# Altium footprint library 555-pcbLIB.PcbLib: 10 footprints
Each footprint in its own frame and in the unit in brackets; x right, y up, seen from the top. Pads: shape width x height; smd on the part's side, far side on the other; paste and mask are expansions set on the pad; w line width, h text height; cw(c..) or ccw(c..) is an arc to the next point about the centre after c.
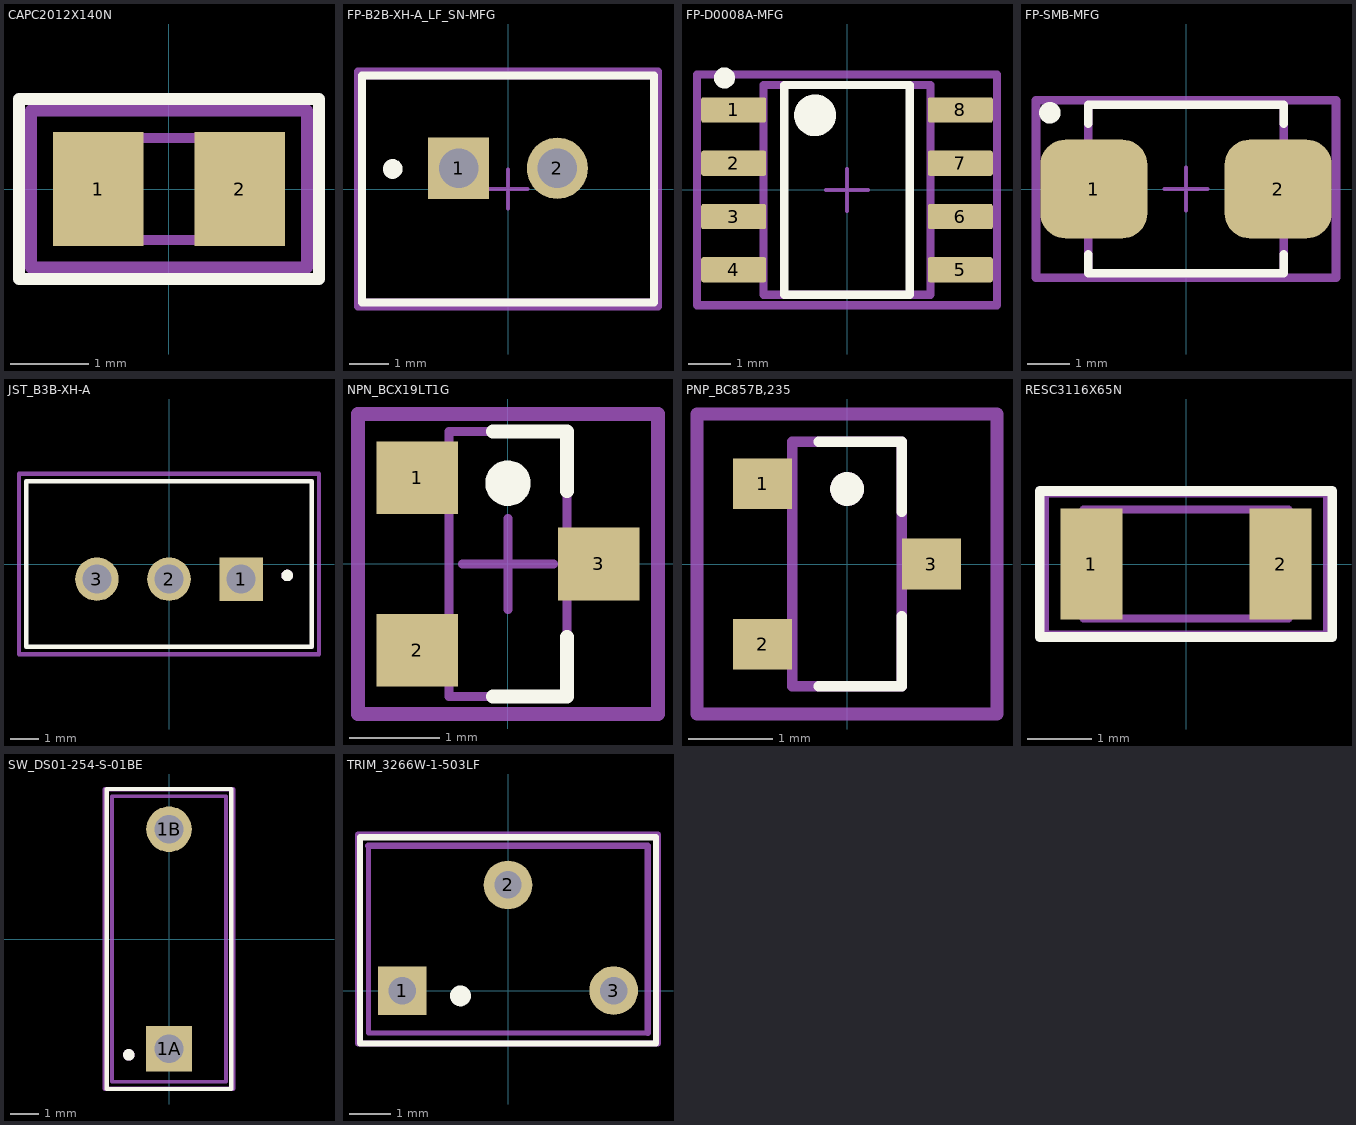
[diagram p0: the footprints below, top view; thin cyan lines are the x and y axes]

## CAPC2012X140N [mm]
pads (2):
  rect 1.15x1.45 smd: 1(-0.9,0) 2(0.9,0)
Top Overlay:
  lines w0.152: -1.905,-1.143 -1.905,1.143 1.905,1.143 1.905,-1.143 -1.905,-1.143
Top Assembly:
  region: -0.5,-0.65 -1,-0.65 -1,0.65 -0.5,0.65
  region: 1,-0.65 0.5,-0.65 0.5,0.65 1,0.65
  lines w0.127: -1,-0.65 -1,0.65 1,0.65 1,-0.65 -1,-0.65
Top Courtyard:
  lines w0.152: -1.75,-1 -1.75,1 1.75,1 1.75,-1 -1.75,-1
3D body "CL21B105KAFNNNE.step": height 1.26, standoff 0.01, extent -1,-0.686 1,0.664

## FP-B2B-XH-A_LF_SN-MFG [mm]
pads (2):
  rect 1.55x1.55 hole 1 paste-2539.97 mask+0: 1(-1.25,0.525)
  round 1.55 hole 1 paste-2539.97 mask+0: 2(1.25,0.525)
Top Overlay:
  circle w0.25: c-2.921,0.508 r0.125
  lines w0.2: -3.7,-2.875 3.7,-2.875 3.7,2.875 -3.7,2.875 -3.7,-2.875
Top Assembly:
  lines w0.2: -3.8,-2.975 3.8,-2.975 3.8,2.975 -3.8,2.975 -3.8,-2.975
  text ".Designator" at 0,0.188 h1
Top 3D Body:
  lines w0.2: -3.7,-2.875 3.7,-2.875 3.7,2.875 -3.7,2.875 -3.7,-2.875
Top Courtyard:
  lines w0.2: -3.8,-2.975 3.8,-2.975 3.8,2.975 -3.8,2.975 -3.8,-2.975
Top Component Center:
  lines w0.1: -0.5,0 0.5,0 ; 0,-0.5 0,0.5
3D body "Conn_JST_B2B-XH-A_LF_SN_eec.STEP": height 7, standoff -3.4, extent -3.7,-2.875 3.7,2.876

## FP-D0008A-MFG [mm]
pads (8):
  rrect17% 1.55x0.6 smd paste+0 mask+0: 1(-2.7,1.905) 2(-2.7,0.635) 3(-2.7,-0.635) 4(-2.7,-1.905) 5(2.7,-1.905) 6(2.7,-0.635) 7(2.7,0.635) 8(2.7,1.905)
Top Overlay:
  circle w0.5: c-0.762,1.778 r0.25
  circle w0.25: c-2.921,2.667 r0.125
  lines w0.2: -1.5,-2.5 -1.5,2.5 1.5,2.5 1.5,-2.5 -1.5,-2.5
Top Assembly:
  lines w0.2: -3.575,-2.75 -3.575,2.75 3.575,2.75 3.575,-2.75 -3.575,-2.75
  text ".Designator" at 0,0.188 h1
Top 3D Body:
  lines w0.2: -1.99,-2.5 -1.99,2.5 1.99,2.5 1.99,-2.5 -1.99,-2.5
Top Courtyard:
  lines w0.2: -3.575,-2.75 -3.575,2.75 3.575,2.75 3.575,-2.75 -3.575,-2.75
Top Component Center:
  lines w0.1: -0.5,0 0.5,0 ; 0,-0.5 0,0.5
3D body "IC_Texas_Instruments_ISO7220ADR_eec.STEP": height 0.25, standoff 0, extent -3.575,-2.75 3.575,2.75

## FP-SMB-MFG [mm]
pads (2):
  rrect50% 2.5x2.3 smd: 1(-2.15,0) 2(2.15,0)
Top Overlay:
  circle w0.25: c-3.175,1.778 r0.125
  lines w0.2: -2.285,-1.525 -2.285,-1.97 2.285,-1.97 2.285,-1.525 ; -2.285,1.525 -2.285,1.97 2.285,1.97 2.285,1.525
Top Assembly:
  lines w0.2: -3.5,-2.07 -3.5,2.07 3.5,2.07 3.5,-2.07 -3.5,-2.07
  text ".Designator" at 0,0.188 h1
Top 3D Body:
  lines w0.2: -2.285,-1.97 -2.285,1.97 2.285,1.97 2.285,-1.97 -2.285,-1.97
Top Courtyard:
  lines w0.2: -3.5,-2.07 3.5,-2.07 3.5,2.07 -3.5,2.07 -3.5,-2.07
Top Component Center:
  lines w0.1: -0.5,0 0.5,0 ; 0,-0.5 0,0.5
3D body "Diode_Diodes_Inc_SMBJ24A-13-F_eec.STEP": height 0.25, standoff 0, extent -3.5,-2.07 3.5,2.07

## JST_B3B-XH-A [mm]
height 7
pads (3):
  rect 1.508x1.508 / inner round 1.508 / far side rect 1.508x1.508 hole 1: 1(2.5,-0.525)
  round 1.508 hole 1: 2(0,-0.525) 3(-2.5,-0.525)
Top Overlay:
  circle w0.2: c4.099,-0.398 r0.1
  lines w0.152: -4.95,-2.875 -4.95,2.875 4.95,2.875 4.95,-2.875 -4.95,-2.875
Top 3D Body:
  circle w0.2: c4.099,-0.398 r0.1
  lines w0.127: -4.95,-2.875 -4.95,2.875 4.95,2.875 4.95,-2.875 -4.95,-2.875
Top Courtyard:
  lines w0.152: -5.2,-3.125 -5.2,3.125 5.2,3.125 5.2,-3.125 -5.2,-3.125
3D body "step_temp.STEP": height 7, standoff -3.4, extent -4.95,-2.875 4.95,2.875

## NPN_BCX19LT1G [mm] "SOT23, 3-Leads, Body 2.92x1.3mm, Pitch 0.95mm"
height 1.11
pads (3):
  rect 0.9x0.8 smd: 1(-1,0.95) 2(-1,-0.95) 3(1,0)
Top Overlay:
  circle w0.25: c0,0.889 r0.125
  lines w0.152: -0.165,-1.46 0.65,-1.46 0.65,-0.8 ; -0.165,1.46 0.65,1.46 0.65,0.8
Top Assembly:
  lines w0.1: -0.65,-1.46 0.65,-1.46 0.65,1.46 -0.65,1.46 -0.65,-1.46
Top Courtyard:
  lines w0.1: -0.5,0 0.5,0 ; 0,-0.5 0,0.5
  lines w0.152: -1.651,-1.651 1.651,-1.651 1.651,1.651 -1.651,1.651 -1.651,-1.651
3D body "BC857B.step": height 1.3, standoff 0, extent -1.3,-1.525 1.3,1.515

## PNP_BC857B,235 [mm]
pads (3):
  rect 0.7x0.6 smd paste-0.05: 1(-1,0.95) 2(-1,-0.95) 3(1,0)
Top Overlay:
  circle w0.2: c0,0.889 r0.1
  lines w0.127: -0.336,-1.45 0.65,-1.45 0.65,-0.62 ; -0.336,1.45 0.65,1.45 0.65,0.62
Top Assembly:
  circle w0.2: c0,0.889 r0.1
  lines w0.127: -0.65,-1.45 -0.65,1.45 0.65,1.45 0.65,-1.45 -0.65,-1.45
Top Courtyard:
  lines w0.152: -1.778,-1.778 -1.778,1.778 1.778,1.778 1.778,-1.778 -1.778,-1.778
3D body "step_temp.STEP": height 1.1, standoff 0, extent -1.15,-1.45 1.15,1.45

## RESC3116X65N [mm]
pads (2):
  rect 0.97x1.73 smd: 1(-1.48,0) 2(1.48,0)
Top Overlay:
  lines w0.152: -2.286,-1.143 -2.286,1.143 2.286,1.143 2.286,-1.143 -2.286,-1.143
Top Assembly:
  lines w0.127: -1.6,-0.85 -1.6,0.85 1.6,0.85 1.6,-0.85 -1.6,-0.85
Top Courtyard:
  lines w0.152: -2.215,-1.115 -2.215,1.115 2.215,1.115 2.215,-1.115 -2.215,-1.115
3D body "step_temp.STEP": height 0.65, standoff 0, extent -1.55,-0.8 1.55,0.8

## SW_DS01-254-S-01BE [mm]
height 7
pads (2):
  rect 1.58x1.58 / inner round 1.58 / far side rect 1.58x1.58 hole 1: 1A(0,-3.81)
  round 1.58 hole 1: 1B(0,3.81)
Top Overlay:
  circle w0.2: c-1.397,-4.022 r0.1
  lines w0.152: -2.159,-5.207 -2.159,5.207 2.159,5.207 2.159,-5.207 0.733,-5.207 -0.733,-5.207 -1.476,-5.207 -2.159,-5.207
Top 3D Body:
  circle w0.2: c-1.397,-4.022 r0.1
  lines w0.127: -1.98,-4.95 1.98,-4.95 1.98,4.95 -1.98,4.95 -1.98,-4.95
Top Courtyard:
  lines w0.152: -2.23,-5.2 2.23,-5.2 2.23,5.2 -2.23,5.2 -2.23,-5.2
3D body "Same_Sky_DS01-254-S-01BE.step": height 6.56, standoff -2.99, extent -1.905,-4.95 2.055,4.95

## TRIM_3266W-1-503LF [mm]
pads (3):
  rect 1.168x1.168 hole 0.66: 1(-2.54,0)
  round 1.168 hole 0.66: 2(0,2.54) 3(2.54,0)
Top Overlay:
  circle w0.3: c-1.143,-0.127 r0.1
  lines w0.152: -3.556,-1.27 3.556,-1.27 3.556,3.683 -3.556,3.683 -3.556,-1.27
Top Assembly:
  lines w0.127: -3.355,3.48 -3.355,-1.02 3.355,-1.02
  lines w0.152: -3.355,3.48 3.355,3.48 3.355,-1.02
Top Courtyard:
  lines w0.152: -3.605,-1.27 -3.605,3.75 3.605,3.75 3.605,-1.27 -3.605,-1.27
3D body "step_temp.STEP": height 8.76, standoff -5.38, extent -3.355,-1.005 3.355,3.495